# Altium footprint library USB_Connectors_Pcb.PcbLib: 1 footprints
Each footprint in its own frame and in the unit in brackets; x right, y up, seen from the top. Pads: shape width x height; smd on the part's side, far side on the other; paste and mask are expansions set on the pad; w line width, h text height; cw(c..) or ccw(c..) is an arc to the next point about the centre after c.
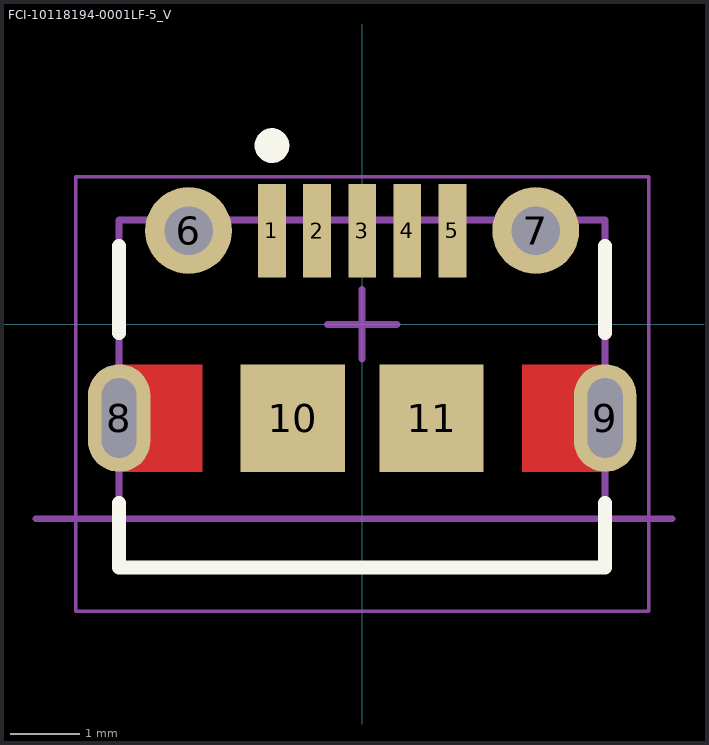
[diagram p0: the footprint, top view; thin cyan lines are the x and y axes]

## FCI-10118194-0001LF-5_V [mm] "SMD, 5-Leads, Body 7x5mm, Pitch 0.65 mm"
height 2.673
pads (11):
  rect 0.4x1.35 smd: 1(-1.3,1.35) 2(-0.65,1.35) 3(0,1.35) 4(0.65,1.35) 5(1.3,1.35)
  round 1.25 hole 0.7: 6(-2.5,1.35) 7(2.5,1.35)
  oval 0.9x1.55 hole 0.5 slot 1.15 at 90 deg: 8(-3.5,-1.35) 9(3.5,-1.35)
  rect 1.5x1.55 smd: 10(-1,-1.35) 11(1,-1.35)
Top Layer:
  region: 3.5,-2.125 3.5,-0.575 2.3,-0.575 2.3,-2.125
  region: -2.3,-2.125 -2.3,-0.575 -3.5,-0.575 -3.5,-2.125
Top Overlay:
  circle w0.25: c-1.3,2.575 r0.125
  lines w0.2: -3.5,-2.575 -3.5,-3.5 3.5,-3.5 3.5,-2.575 ; -3.5,-0.125 -3.5,1.13 ; 3.5,-0.125 3.5,1.13
Mechanical 6:
  lines w0.1: -4.7,-2.8 4.465,-2.8
  text "PCB EDGE" at -7.2,-2.9 h0.3
Mechanical 13:
  lines w0.1: -3.5,-3.5 -3.5,1.5 3.5,1.5 3.5,-3.5 -3.5,-3.5
Mechanical 15:
  lines w0.05: -4.125,-4.13 -4.125,2.125 4.125,2.125 4.125,-4.13 -4.125,-4.13
  lines w0.1: -0.5,0 0.5,0 ; 0,-0.5 0,0.5
3D body "10118194c.stp": height 2.72, standoff -0.55, extent -4.025,-4.03 4.025,1.55